# Altium footprint library 常用封装3.PcbLib: 76 footprints (part 4 of 5)
Each footprint in its own frame and in the unit in brackets; x right, y up, seen from the top. Pads: shape width x height; smd on the part's side, far side on the other; paste and mask are expansions set on the pad; w line width, h text height; cw(c..) or ccw(c..) is an arc to the next point about the centre after c.
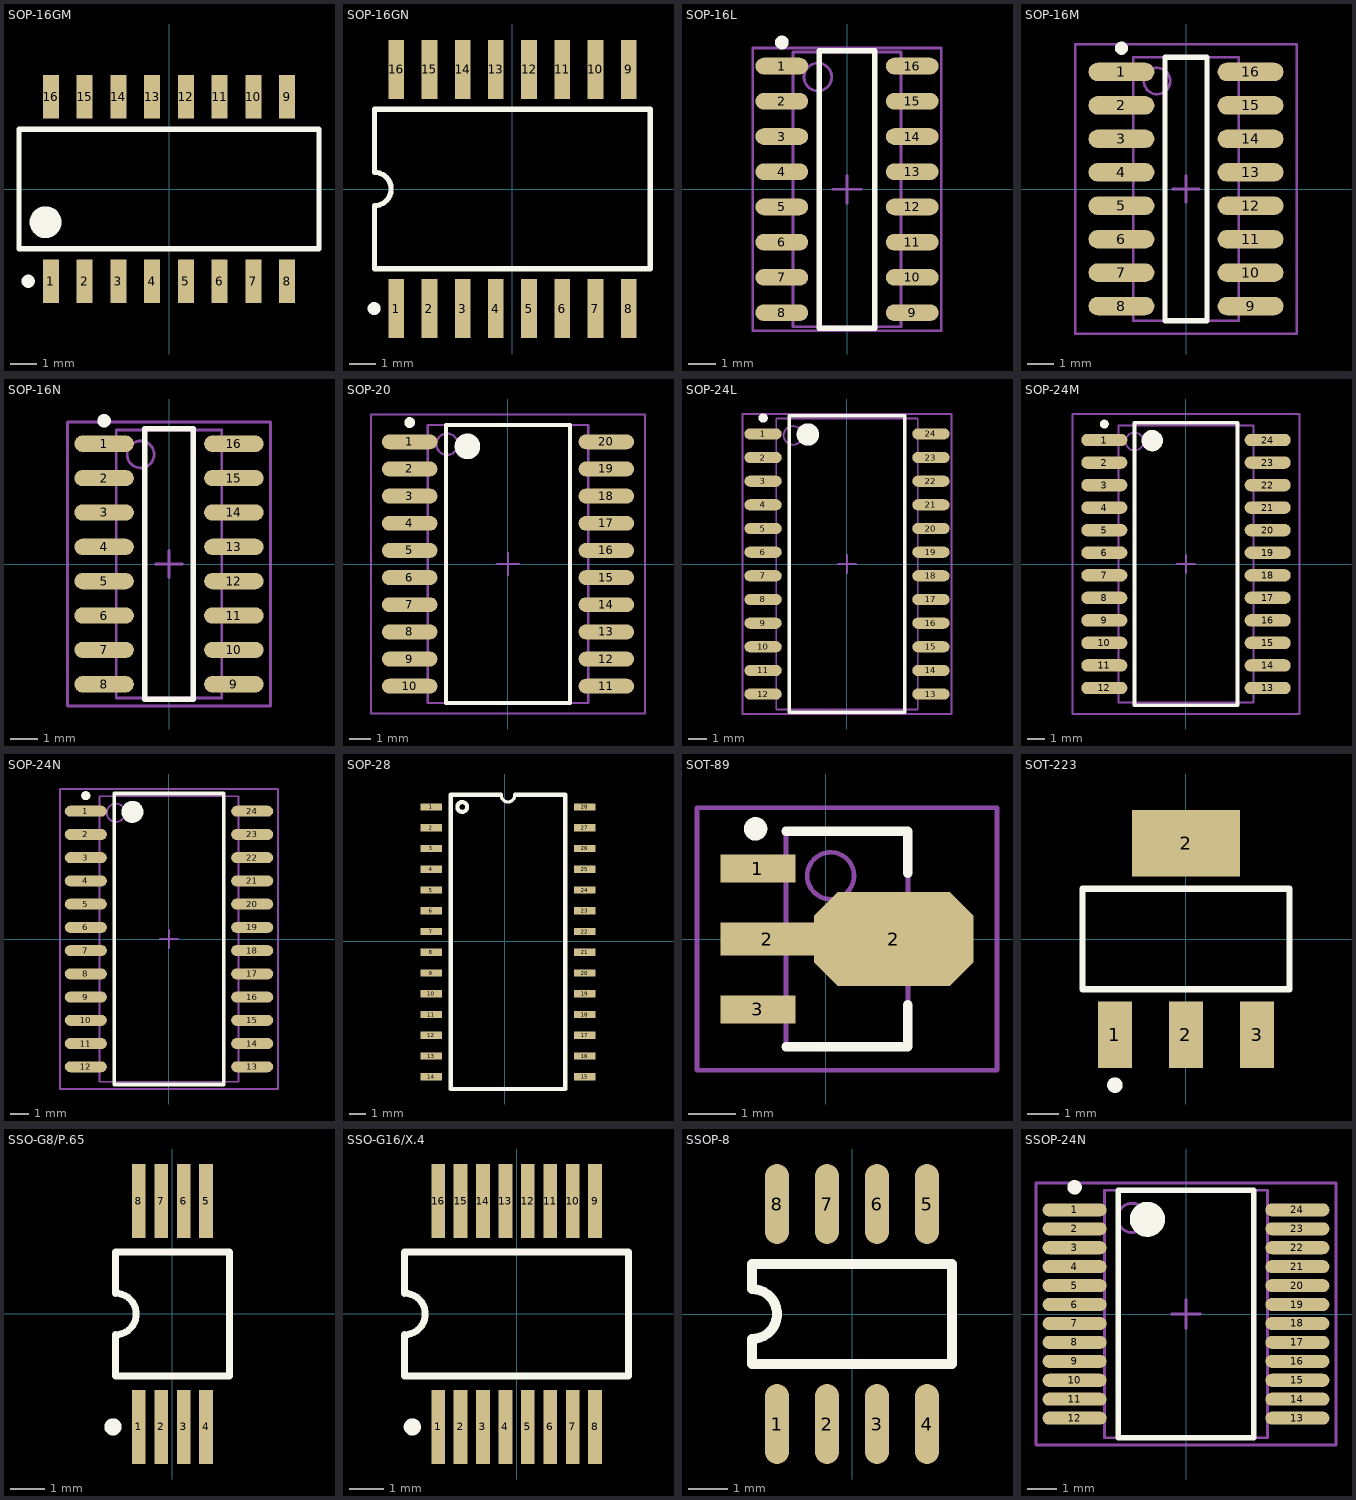
[diagram p3: the footprints below, top view; thin cyan lines are the x and y axes]

## SOP-16GM [mm]
pads (16):
  rect 0.6x1.65 smd: 1(-4.445,-3.475) 2(-3.175,-3.475) 3(-1.905,-3.475) 4(-0.635,-3.475) 5(0.635,-3.475) 6(1.905,-3.475) 7(3.175,-3.475) 8(4.445,-3.475) 9(4.445,3.475) 10(3.175,3.475) 11(1.905,3.475) 12(0.635,3.475) 13(-0.635,3.475) 14(-1.905,3.475) 15(-3.175,3.475) 16(-4.445,3.475)
Top Overlay:
  circle w0.25: c-5.305,-3.475 r0.125
  circle w0.6: c-4.65,-1.25 r0.3
  lines w0.2: -5.65,-2.25 -5.65,-0.635 -5.65,2.25 5.65,2.25 5.65,-2.25 -5.65,-2.25
3D body: height 1.8, standoff -0.03, extent -5.524,-3.136 5.018,3.136

## SOP-16GN [mm] "Wide body."
pads (16):
  rect 0.6x2.25 smd: 1(-4.445,-4.575) 2(-3.175,-4.575) 3(-1.905,-4.575) 4(-0.635,-4.575) 5(0.635,-4.575) 6(1.905,-4.575) 7(3.175,-4.575) 8(4.445,-4.575) 9(4.445,4.575) 10(3.175,4.575) 11(1.905,4.575) 12(0.635,4.575) 13(-0.635,4.575) 14(-1.905,4.575) 15(-3.175,4.575) 16(-4.445,4.575)
Top Overlay:
  circle w0.25: c-5.295,-4.575 r0.125
  lines w0.2: -5.275,-3.05 -5.275,-0.635 ccw(c-5.275,0) -5.275,0.635 -5.275,3.05 5.275,3.05 5.275,-3.05 -5.275,-3.05
3D body: height 2.25, standoff 0.01, extent -5.52,-5.295 5.522,5.296

## SOP-16L [mm] "SOIC, 16-Leads, Body 9.9x3.9mm, Pitch 1.27mm, IPC High Density"
height 1.75
pads (16):
  oval 1.9x0.6 smd: 1(-2.35,4.445) 2(-2.35,3.175) 3(-2.35,1.905) 4(-2.35,0.635) 5(-2.35,-0.635) 6(-2.35,-1.905) 7(-2.35,-3.175) 8(-2.35,-4.445) 9(2.35,-4.445) 10(2.35,-3.175) 11(2.35,-1.905) 12(2.35,-0.635) 13(2.35,0.635) 14(2.35,1.905) 15(2.35,3.175) 16(2.35,4.445)
Top Overlay:
  circle w0.25: c-2.35,5.295 r0.125
  lines w0.2: -1,-5 -1,5 1,5 1,-5 -1,-5
Mechanical 13:
  circle w0.1: c-1.05,4.05 r0.5
  lines w0.1: -1.95,-4.95 -1.95,4.95 1.95,4.95 1.95,-4.95 -1.95,-4.95
Mechanical 15:
  lines w0.1: -0.5,0 0.5,0 ; 0,-0.5 0,0.5 ; -3.4,-5.1 -3.4,5.1 3.4,5.1 3.4,-5.1 -3.4,-5.1
3D body: height 1.8, standoff -0.03, extent -3.136,-5.018 3.136,5.524

## SOP-16M [mm] "SOIC, 16-Leads, Body 9.9x3.9mm, Pitch 1.27mm, IPC Low Density"
height 1.75
pads (16):
  oval 2.5x0.7 smd: 1(-2.45,4.445) 2(-2.45,3.175) 3(-2.45,1.905) 4(-2.45,0.635) 5(-2.45,-0.635) 6(-2.45,-1.905) 7(-2.45,-3.175) 8(-2.45,-4.445) 9(2.45,-4.445) 10(2.45,-3.175) 11(2.45,-1.905) 12(2.45,-0.635) 13(2.45,0.635) 14(2.45,1.905) 15(2.45,3.175) 16(2.45,4.445)
Top Overlay:
  circle w0.25: c-2.45,5.345 r0.125
  lines w0.2: -0.8,-5 0.8,-5 0.8,5 -0.8,5 -0.8,-5
Mechanical 13:
  circle w0.1: c-1.1,4.1 r0.5
  lines w0.1: -2,-5 2,-5 2,5 -2,5 -2,-5
Mechanical 15:
  lines w0.1: -0.5,0 0.5,0 ; 0,-0.5 0,0.5 ; -4.2,-5.5 4.2,-5.5 4.2,5.5 -4.2,5.5 -4.2,-5.5
3D body: height 1.8, standoff -0.03, extent -3.136,-5.018 3.136,5.524

## SOP-16N [mm] "SOIC, 16-Leads, Body 9.9x3.9mm, Pitch 1.27mm, IPC Medium Density"
height 1.75
pads (16):
  oval 2.2x0.6 smd: 1(-2.4,4.445) 2(-2.4,3.175) 3(-2.4,1.905) 4(-2.4,0.635) 5(-2.4,-0.635) 6(-2.4,-1.905) 7(-2.4,-3.175) 8(-2.4,-4.445) 9(2.4,-4.445) 10(2.4,-3.175) 11(2.4,-1.905) 12(2.4,-0.635) 13(2.4,0.635) 14(2.4,1.905) 15(2.4,3.175) 16(2.4,4.445)
Top Overlay:
  circle w0.25: c-2.4,5.295 r0.125
  lines w0.2: -0.9,-5 0.9,-5 0.9,5 -0.9,5 -0.9,-5
Mechanical 13:
  circle w0.1: c-1.05,4.05 r0.5
  lines w0.1: -1.95,-4.95 1.95,-4.95 1.95,4.95 -1.95,4.95 -1.95,-4.95
Mechanical 15:
  lines w0.1: -0.5,0 0.5,0 ; 0,-0.5 0,0.5 ; -3.75,-5.25 3.75,-5.25 3.75,5.25 -3.75,5.25 -3.75,-5.25
3D body: height 1.8, standoff -0.03, extent -3.136,-5.018 3.136,5.524

## SOP-20 [mm] "SOIC, 20-Leads, Body 12.8x7.5mm, Pitch 1.27mm, IPC Low Density"
height 2.6
pads (20):
  oval 2.6x0.7 smd: 1(-4.6,5.715) 2(-4.6,4.445) 3(-4.6,3.175) 4(-4.6,1.905) 5(-4.6,0.635) 6(-4.6,-0.635) 7(-4.6,-1.905) 8(-4.6,-3.175) 9(-4.6,-4.445) 10(-4.6,-5.715) 11(4.6,-5.715) 12(4.6,-4.445) 13(4.6,-3.175) 14(4.6,-1.905) 15(4.6,-0.635) 16(4.6,0.635) 17(4.6,1.905) 18(4.6,3.175) 19(4.6,4.445) 20(4.6,5.715)
Top Overlay:
  circle w0.25: c-4.6,6.615 r0.125
  circle w0.6: c-1.9,5.5 r0.3
  lines w0.2: -2.9,-6.5 -2.9,6.5 2.9,6.5 2.9,-6.5 -2.9,-6.5
Mechanical 13:
  circle w0.1: c-2.85,5.6 r0.5
  lines w0.1: -3.75,-6.5 -3.75,6.5 3.75,6.5 3.75,-6.5 -3.75,-6.5
Mechanical 15:
  lines w0.1: -0.5,0 0.5,0 ; 0,-0.5 0,0.5 ; -6.4,-7 -6.4,7 6.4,7 6.4,-7 -6.4,-7
3D body: height 2.7, standoff -0.05, extent -5.177,-6.782 5.177,6.53

## SOP-24L [mm] "SOIC, 24-Leads, Body 15.4x7.5mm, Pitch 1.27mm, IPC High Density"
height 2.65
pads (24):
  oval 2x0.6 smd: 1(-4.5,6.985) 2(-4.5,5.715) 3(-4.5,4.445) 4(-4.5,3.175) 5(-4.5,1.905) 6(-4.5,0.635) 7(-4.5,-0.635) 8(-4.5,-1.905) 9(-4.5,-3.175) 10(-4.5,-4.445) 11(-4.5,-5.715) 12(-4.5,-6.985) 13(4.5,-6.985) 14(4.5,-5.715) 15(4.5,-4.445) 16(4.5,-3.175) 17(4.5,-1.905) 18(4.5,-0.635) 19(4.5,0.635) 20(4.5,1.905) 21(4.5,3.175) 22(4.5,4.445) 23(4.5,5.715) 24(4.5,6.985)
Top Overlay:
  circle w0.25: c-4.5,7.835 r0.125
  circle w0.6: c-2.1,6.95 r0.3
  lines w0.2: -3.1,-7.95 -3.1,7.95 3.1,7.95 3.1,-7.95 -3.1,-7.95
Mechanical 13:
  circle w0.1: c-2.9,6.9 r0.5
  lines w0.1: -3.8,-7.8 -3.8,7.8 3.8,7.8 3.8,-7.8 -3.8,-7.8
Mechanical 15:
  lines w0.1: -0.5,0 0.5,0 ; 0,-0.5 0,0.5 ; -5.6,-8.05 -5.6,8.05 5.6,8.05 5.6,-8.05 -5.6,-8.05
3D body: height 2.65, standoff 0, extent -3.8,-7.8 3.8,7.8

## SOP-24M [mm] "SOIC, 24-Leads, Body 15.4x7.5mm, Pitch 1.27mm, IPC Low Density"
height 2.65
pads (24):
  oval 2.6x0.7 smd: 1(-4.6,6.985) 2(-4.6,5.715) 3(-4.6,4.445) 4(-4.6,3.175) 5(-4.6,1.905) 6(-4.6,0.635) 7(-4.6,-0.635) 8(-4.6,-1.905) 9(-4.6,-3.175) 10(-4.6,-4.445) 11(-4.6,-5.715) 12(-4.6,-6.985) 13(4.6,-6.985) 14(4.6,-5.715) 15(4.6,-4.445) 16(4.6,-3.175) 17(4.6,-1.905) 18(4.6,-0.635) 19(4.6,0.635) 20(4.6,1.905) 21(4.6,3.175) 22(4.6,4.445) 23(4.6,5.715) 24(4.6,6.985)
Top Overlay:
  circle w0.25: c-4.6,7.885 r0.125
  circle w0.6: c-1.9,6.95 r0.3
  lines w0.2: -2.9,-7.95 -2.9,7.95 2.9,7.95 2.9,-7.95 -2.9,-7.95
Mechanical 13:
  circle w0.1: c-2.9,6.9 r0.5
  lines w0.1: -3.8,-7.8 -3.8,7.8 3.8,7.8 3.8,-7.8 -3.8,-7.8
Mechanical 15:
  lines w0.1: -0.5,0 0.5,0 ; 0,-0.5 0,0.5 ; -6.4,-8.45 -6.4,8.45 6.4,8.45 6.4,-8.45 -6.4,-8.45
3D body: height 2.65, standoff 0, extent -3.8,-7.8 3.8,7.8

## SOP-24N [mm] "SOIC, 24-Leads, Body 15.4x7.5mm, Pitch 1.27mm, IPC Medium Density"
height 2.65
pads (24):
  oval 2.3x0.6 smd: 1(-4.55,6.985) 2(-4.55,5.715) 3(-4.55,4.445) 4(-4.55,3.175) 5(-4.55,1.905) 6(-4.55,0.635) 7(-4.55,-0.635) 8(-4.55,-1.905) 9(-4.55,-3.175) 10(-4.55,-4.445) 11(-4.55,-5.715) 12(-4.55,-6.985) 13(4.55,-6.985) 14(4.55,-5.715) 15(4.55,-4.445) 16(4.55,-3.175) 17(4.55,-1.905) 18(4.55,-0.635) 19(4.55,0.635) 20(4.55,1.905) 21(4.55,3.175) 22(4.55,4.445) 23(4.55,5.715) 24(4.55,6.985)
Top Overlay:
  circle w0.6: c-2,6.95 r0.3
  circle w0.25: c-4.55,7.835 r0.125
  lines w0.2: -3,-7.95 3,-7.95 3,7.95 -3,7.95 -3,-7.95
Mechanical 13:
  circle w0.1: c-2.9,6.9 r0.5
  lines w0.1: -3.8,-7.8 3.8,-7.8 3.8,7.8 -3.8,7.8 -3.8,-7.8
Mechanical 15:
  lines w0.1: -0.5,0 0.5,0 ; 0,-0.5 0,0.5 ; -5.95,-8.2 5.95,-8.2 5.95,8.2 -5.95,8.2 -5.95,-8.2
3D body: height 2.65, standoff 0, extent -3.8,-7.8 3.8,7.8

## SOP-28 [mm]
pads (28):
  rect 1.3x0.45 smd: 1(-4.5,8.2) 2(-4.5,6.93) 3(-4.5,5.66) 4(-4.5,4.39) 5(-4.5,3.12) 6(-4.5,1.85) 7(-4.5,0.58) 8(-4.5,-0.69) 9(-4.5,-1.96) 10(-4.5,-3.23) 11(-4.5,-4.5) 12(-4.5,-5.77) 13(-4.5,-7.04) 14(-4.5,-8.31) 15(4.9,-8.31) 16(4.9,-7.04) 17(4.9,-5.77) 18(4.9,-4.5) 19(4.9,-3.23) 20(4.9,-1.96) 21(4.9,-0.69) 22(4.9,0.58) 23(4.9,1.85) 24(4.9,3.12) 25(4.9,4.39) 26(4.9,5.66) 27(4.9,6.93) 28(4.9,8.2)
Top Overlay:
  circle w0.25: c-2.6,8.2 r0.3
  lines w0.2: -0.2,8.9 ccw(c0.2,8.9) 0.6,8.9
  lines w0.254: -0.238,8.945 -3.3,8.945 -3.3,-9.055 3.7,-9.055 3.7,8.945 0.637,8.945
3D body: height 2, standoff 0, extent -3.427,-9.182 3.827,9.072

## SOT-89 [mm] "SOT89, 3-Leads, Body 4.5x2.4 mm, Pitch 1.5mm, Lead Span 4.1mm, IPC Low Density"
height 1.6
pads (4):
  rect 1.6x0.6 smd: 1(-1.45,1.5) 3(-1.45,-1.5)
  rect 2x0.7 smd: 2(-1.25,0)
  oct 3.4x2 smd: 2(1.45,0)
Top Overlay:
  circle w0.25: c-1.5,2.35 r0.125
  lines w0.2: -0.85,-2.3 1.75,-2.3 1.75,-1.4 ; -0.85,2.3 1.75,2.3 1.75,1.4
Mechanical 13:
  circle w0.1: c0.1,1.35 r0.5
  lines w0.1: -0.85,-2.3 1.75,-2.3 1.75,2.3 -0.85,2.3 -0.85,-2.3
Mechanical 15:
  lines w0.1: -0.05,0 0.95,0 ; 0.45,-0.5 0.45,0.5 ; -2.75,-2.8 3.65,-2.8 3.65,2.8 -2.75,2.8 -2.75,-2.8
3D body: height 1.6, standoff 0, extent -0.85,-2.3 1.75,2.3

## SOT-223 [mm]
pads (4):
  rect 1.1x2.15 smd: 1(-2.3,-3.1) 2(0,-3.1) 3(2.3,-3.1)
  rect 3.5x2.15 smd: 2(0,3.1)
Top Overlay:
  circle w0.25: c-2.3,-4.725 r0.125
  lines w0.2: -3.35,-1.625 3.35,-1.625 3.35,1.625 -3.35,1.625 -3.35,-1.625
3D body: height 1.7, standoff 0, extent -3.25,-3.48 3.25,3.48

## SSO-G8/P.65 [mm]
pads (8):
  rect 0.4x2.15 smd: 1(-0.975,-3.275) 2(-0.325,-3.275) 3(0.325,-3.275) 4(0.975,-3.275) 5(0.975,3.275) 6(0.325,3.275) 7(-0.325,3.275) 8(-0.975,3.275)
Top Overlay:
  circle w0.25: c-1.725,-3.275 r0.125
  lines w0.2: -1.65,-1.8 -1.65,-0.6 ccw(c-1.65,0) -1.65,0.6 -1.65,1.8 1.65,1.8 1.65,-1.8 -1.65,-1.8

## SSO-G16/X.4 [mm]
pads (16):
  rect 0.4x2.15 smd: 1(-2.275,-3.275) 2(-1.625,-3.275) 3(-0.975,-3.275) 4(-0.325,-3.275) 5(0.325,-3.275) 6(0.975,-3.275) 7(1.625,-3.275) 8(2.275,-3.275) 9(2.275,3.275) 10(1.625,3.275) 11(0.975,3.275) 12(0.325,3.275) 13(-0.325,3.275) 14(-0.975,3.275) 15(-1.625,3.275) 16(-2.275,3.275)
Top Overlay:
  circle w0.25: c-3.025,-3.275 r0.125
  lines w0.2: -3.25,-1.8 3.25,-1.8 3.25,1.8 -3.25,1.8 -3.25,0.6 cw(c-3.25,0) -3.25,-0.6 -3.25,-1.8

## SSOP-8 [mil] "Shrink Small-Outline Package"
height 180.31
pads (8):
  oval 24x80 smd: 1(-75,-110) 2(-25,-110) 3(25,-110) 4(75,-110) 5(75,110) 6(25,110) 7(-25,110) 8(-75,110)
Top Overlay:
  lines w10: -100,-50 100,-50 100,50 -100,50 -100,25 cw(c-100,0) -100,-25 -100,-50
3D body: height 180.31, standoff 0, extent -100.02,-50.02 100.02,50.02

## SSOP-24N [mm] "SOP, 24-Leads, Body 8.5x5.6mm (max), Pitch 0.65mm, IPC Medium Density"
height 2.13
pads (24):
  oval 2.2x0.45 smd: 1(-3.825,3.575) 2(-3.825,2.925) 3(-3.825,2.275) 4(-3.825,1.625) 5(-3.825,0.975) 6(-3.825,0.325) 7(-3.825,-0.325) 8(-3.825,-0.975) 9(-3.825,-1.625) 10(-3.825,-2.275) 11(-3.825,-2.925) 12(-3.825,-3.575) 13(3.825,-3.575) 14(3.825,-2.925) 15(3.825,-2.275) 16(3.825,-1.625) 17(3.825,-0.975) 18(3.825,-0.325) 19(3.825,0.325) 20(3.825,0.975) 21(3.825,1.625) 22(3.825,2.275) 23(3.825,2.925) 24(3.825,3.575)
Top Overlay:
  circle w0.25: c-3.825,4.35 r0.125
  circle w0.6: c-1.325,3.25 r0.3
  lines w0.2: -2.325,-4.25 -2.325,4.25 2.325,4.25 2.325,-4.25 -2.325,-4.25
Mechanical 13:
  circle w0.1: c-1.85,3.3 r0.5
  lines w0.1: -2.8,-4.25 -2.8,4.25 2.8,4.25 2.8,-4.25 -2.8,-4.25
Mechanical 15:
  lines w0.1: -0.5,0 0.5,0 ; 0,-0.5 0,0.5 ; -5.15,-4.5 -5.15,4.5 5.15,4.5 5.15,-4.5 -5.15,-4.5
3D body: height 2.13, standoff 0.05, extent -2.8,-4.25 2.8,4.25